# EAGLE library part CHB200W (library CINCON DC-DC CONVERTER)
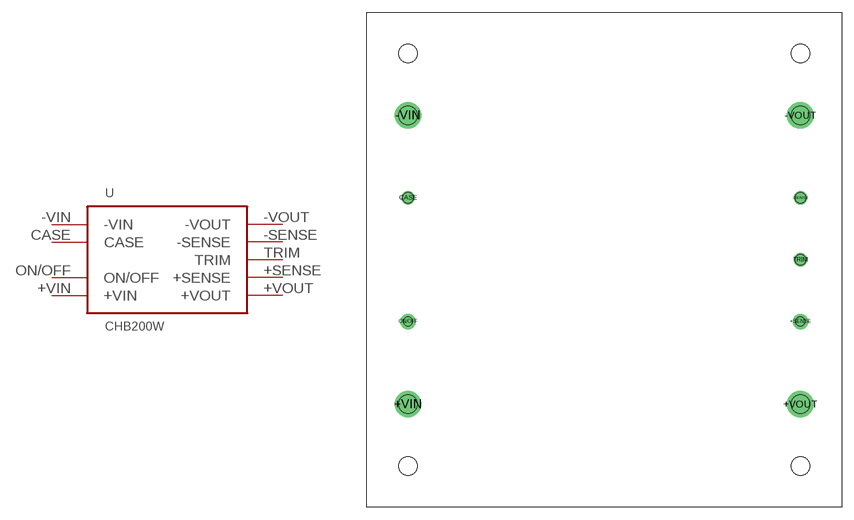
[diagram p0: symbol with the pads of CHB200W-24S12; footprint CHB200W-24S12]

Designator prefix -

## CHB200W  [CHB200W-24S12]
+SENSE  +SENSE
+VIN  +VIN
+VOUT  +VOUT
-SENSE  -SENSE
-VIN  -VIN
-VOUT  -VOUT
CASE  CASE
ON/OFF  ON/OFF
TRIM  TRIM

## Footprint CHB200W-24S12 (pad centres in mm)
Cincon DC/DC Converter. Same footprint for the series. http://www.cincon.com/upload/media/data%20sheets/Data%20Sheet%20(DC)/HB%20CASE/CHB200W-V15.pdf
drill 1.27: +SENSE 48.26,17.78; ON/OFF 0,17.78
drill 2.286: +VIN 0,7.62; +VOUT 48.26,7.62; -VIN 0,43.18; -VOUT 48.26,43.18
drill 1.1: -SENSE 48.26,33.02; CASE 0,33.02; TRIM 48.26,25.4
hole 2.286 at 0,0
hole 2.286 at 48.26,0
hole 2.286 at 0,7.62
hole 1.1 at 0,17.78
hole 2.286 at 0,50.8
hole 2.286 at 0,43.18
hole 2.286 at 48.26,7.62
hole 1.1 at 48.26,17.78
hole 2.286 at 48.26,43.18
hole 2.286 at 48.26,50.8
hole 1.27 at 0,33.02
hole 1.27 at 48.26,33.02
hole 1.27 at 48.26,25.4